# Altium schematic symbol library TVS_Diode.SchLib: 1 symbol
Pins are listed as number, name and electrical type; pins without a type are passive.

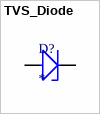
[diagram p0: symbol TVS_Diode]

## TVS_Diode
designator D?
pins: A, C 2